# Altium footprint library Components - 03.03.24 - 22.05.PcbLib: 3 footprints
Each footprint in its own frame and in the unit in brackets; x right, y up, seen from the top. Pads: shape width x height; smd on the part's side, far side on the other; paste and mask are expansions set on the pad; w line width, h text height; cw(c..) or ccw(c..) is an arc to the next point about the centre after c.
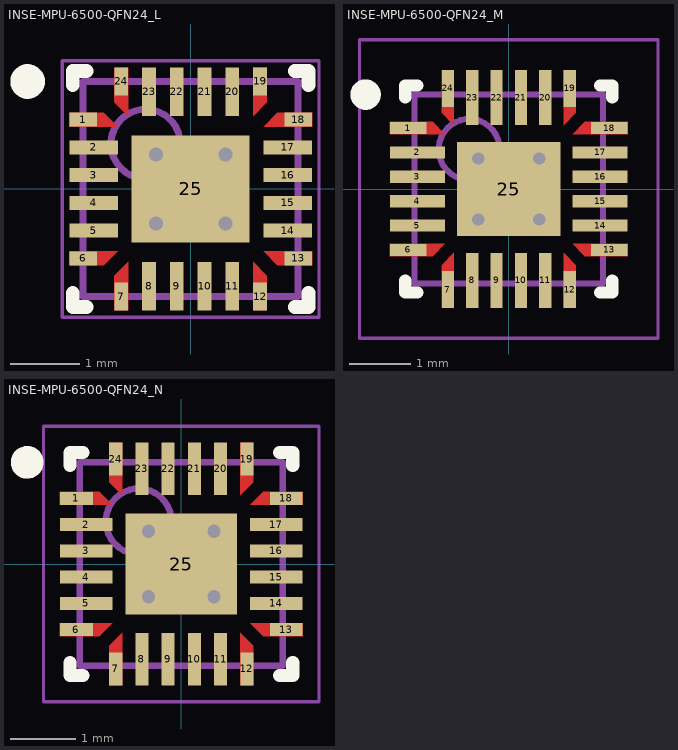
[diagram p0: the footprints below, top view; thin cyan lines are the x and y axes]

## INSE-MPU-6500-QFN24_L [mm] "QFN, 24-Leads, Body 3.1x3.1mm, Pitch 0.4mm, Thermal Pad 1.7X1.54mm, IPC High Density"
height 0.95
pads (25):
  rect 0.4x0.2 smd: 1(-1.55,1) 6(-1.55,-1) 13(1.55,-1) 18(1.55,1)
  rect 0.7x0.2 smd: 2(-1.4,0.6) 3(-1.4,0.2) 4(-1.4,-0.2) 5(-1.4,-0.6) 14(1.4,-0.6) 15(1.4,-0.2) 16(1.4,0.2) 17(1.4,0.6)
  rect 0.2x0.4 smd: 7(-1,-1.55) 12(1,-1.55) 19(1,1.55) 24(-1,1.55)
  rect 0.2x0.7 smd: 8(-0.6,-1.4) 9(-0.2,-1.4) 10(0.2,-1.4) 11(0.6,-1.4) 20(0.6,1.4) 21(0.2,1.4) 22(-0.2,1.4) 23(-0.6,1.4)
  rect 1.7x1.54 smd: 25(0,0)
via -0.5,0.5 diameter 0.5 hole 0.2
via -0.5,-0.5 diameter 0.5 hole 0.2
via 0.5,-0.5 diameter 0.5 hole 0.2
via 0.5,0.5 diameter 0.5 hole 0.2
Top Layer:
  region: 1.75,1.1 1.75,0.9 1.05,0.9 1.25,1.1
  region: 1.1,-1.75 0.9,-1.75 0.9,-1.05 1.1,-1.25
  region: -1.75,-1.1 -1.75,-0.9 -1.05,-0.9 -1.25,-1.1
  region: 1.1,1.75 0.9,1.75 0.9,1.05 1.1,1.25
  region: 1.75,-1.1 1.75,-0.9 1.05,-0.9 1.25,-1.1
  region: -1.1,-1.75 -0.9,-1.75 -0.9,-1.05 -1.1,-1.25
  region: -1.1,1.75 -0.9,1.75 -0.9,1.05 -1.1,1.25
  region: -1.75,1.1 -1.75,0.9 -1.05,0.9 -1.25,1.1
Top Overlay:
  circle w0.25: c-2.35,1.55 r0.125
  lines w0.2: -1.7,-1.5 -1.7,-1.7 -1.5,-1.7 ; -1.7,1.5 -1.7,1.7 -1.5,1.7 ; 1.5,-1.7 1.7,-1.7 1.7,-1.5 ; 1.5,1.7 1.7,1.7 1.7,1.5
Mechanical 13:
  circle w0.1: c-0.65,0.65 r0.5
  lines w0.1: -1.55,-1.55 -1.55,1.55 1.55,1.55 1.55,-1.55 -1.55,-1.55
Mechanical 15:
  lines w0.05: -1.85,-1.85 -1.85,1.85 1.85,1.85 1.85,-1.85 -1.85,-1.85
  lines w0.1: -0.5,0 0.5,0 ; 0,-0.5 0,0.5
3D body: height 0.95, standoff 0, extent -1.55,-1.55 1.55,1.55

## INSE-MPU-6500-QFN24_M [mm] "QFN, 24-Leads, Body 3.1x3.1mm, Pitch 0.4mm, Thermal Pad 1.7X1.54mm, IPC Low Density"
height 0.95
pads (25):
  rect 0.6x0.2 smd: 1(-1.65,1) 6(-1.65,-1) 13(1.65,-1) 18(1.65,1)
  rect 0.9x0.2 smd: 2(-1.5,0.6) 3(-1.5,0.2) 4(-1.5,-0.2) 5(-1.5,-0.6) 14(1.5,-0.6) 15(1.5,-0.2) 16(1.5,0.2) 17(1.5,0.6)
  rect 0.2x0.6 smd: 7(-1,-1.65) 12(1,-1.65) 19(1,1.65) 24(-1,1.65)
  rect 0.2x0.9 smd: 8(-0.6,-1.5) 9(-0.2,-1.5) 10(0.2,-1.5) 11(0.6,-1.5) 20(0.6,1.5) 21(0.2,1.5) 22(-0.2,1.5) 23(-0.6,1.5)
  rect 1.7x1.54 smd: 25(0,0)
via -0.5,0.5 diameter 0.5 hole 0.2
via -0.5,-0.5 diameter 0.5 hole 0.2
via 0.5,-0.5 diameter 0.5 hole 0.2
via 0.5,0.5 diameter 0.5 hole 0.2
Top Layer:
  region: -1.95,1.1 -1.95,0.9 -1.05,0.9 -1.25,1.1
  region: -1.1,-1.95 -0.9,-1.95 -0.9,-1.05 -1.1,-1.25
  region: 1.95,-1.1 1.95,-0.9 1.05,-0.9 1.25,-1.1
  region: 1.1,1.95 0.9,1.95 0.9,1.05 1.1,1.25
  region: -1.1,1.95 -0.9,1.95 -0.9,1.05 -1.1,1.25
  region: -1.95,-1.1 -1.95,-0.9 -1.05,-0.9 -1.25,-1.1
  region: 1.1,-1.95 0.9,-1.95 0.9,-1.05 1.1,-1.25
  region: 1.95,1.1 1.95,0.9 1.05,0.9 1.25,1.1
Top Overlay:
  circle w0.25: c-2.35,1.55 r0.125
  lines w0.2: -1.7,-1.5 -1.7,-1.7 -1.5,-1.7 ; -1.7,1.5 -1.7,1.7 -1.5,1.7 ; 1.5,-1.7 1.7,-1.7 1.7,-1.5 ; 1.5,1.7 1.7,1.7 1.7,1.5
Mechanical 13:
  circle w0.1: c-0.65,0.65 r0.5
  lines w0.1: -1.55,-1.55 1.55,-1.55 1.55,1.55 -1.55,1.55 -1.55,-1.55
Mechanical 15:
  lines w0.05: -2.45,-2.45 2.45,-2.45 2.45,2.45 -2.45,2.45 -2.45,-2.45
  lines w0.1: -0.5,0 0.5,0 ; 0,-0.5 0,0.5
3D body: height 0.95, standoff 0, extent -1.55,-1.55 1.55,1.55

## INSE-MPU-6500-QFN24_N [mm] "QFN, 24-Leads, Body 3.1x3.1mm, Pitch 0.4mm, Thermal Pad 1.7X1.54mm, IPC Medium Density"
height 0.95
pads (25):
  rect 0.5x0.2 smd: 1(-1.6,1) 6(-1.6,-1) 13(1.6,-1) 18(1.6,1)
  rect 0.8x0.2 smd: 2(-1.45,0.6) 3(-1.45,0.2) 4(-1.45,-0.2) 5(-1.45,-0.6) 14(1.45,-0.6) 15(1.45,-0.2) 16(1.45,0.2) 17(1.45,0.6)
  rect 0.2x0.5 smd: 7(-1,-1.6) 12(1,-1.6) 19(1,1.6) 24(-1,1.6)
  rect 0.2x0.8 smd: 8(-0.6,-1.45) 9(-0.2,-1.45) 10(0.2,-1.45) 11(0.6,-1.45) 20(0.6,1.45) 21(0.2,1.45) 22(-0.2,1.45) 23(-0.6,1.45)
  rect 1.7x1.54 smd: 25(0,0)
via -0.5,0.5 diameter 0.5 hole 0.2
via -0.5,-0.5 diameter 0.5 hole 0.2
via 0.5,-0.5 diameter 0.5 hole 0.2
via 0.5,0.5 diameter 0.5 hole 0.2
Top Layer:
  region: -1.85,1.1 -1.85,0.9 -1.05,0.9 -1.25,1.1
  region: -1.1,-1.85 -0.9,-1.85 -0.9,-1.05 -1.1,-1.25
  region: 1.85,-1.1 1.85,-0.9 1.05,-0.9 1.25,-1.1
  region: 1.1,1.85 0.9,1.85 0.9,1.05 1.1,1.25
  region: 1.85,1.1 1.85,0.9 1.05,0.9 1.25,1.1
  region: -1.1,1.85 -0.9,1.85 -0.9,1.05 -1.1,1.25
  region: -1.85,-1.1 -1.85,-0.9 -1.05,-0.9 -1.25,-1.1
  region: 1.1,-1.85 0.9,-1.85 0.9,-1.05 1.1,-1.25
Top Overlay:
  circle w0.25: c-2.35,1.55 r0.125
  lines w0.2: -1.7,-1.5 -1.7,-1.7 -1.5,-1.7 ; -1.7,1.5 -1.7,1.7 -1.5,1.7 ; 1.5,-1.7 1.7,-1.7 1.7,-1.5 ; 1.5,1.7 1.7,1.7 1.7,1.5
Mechanical 13:
  circle w0.1: c-0.65,0.65 r0.5
  lines w0.1: -1.55,-1.55 1.55,-1.55 1.55,1.55 -1.55,1.55 -1.55,-1.55
Mechanical 15:
  lines w0.05: -2.1,-2.1 2.1,-2.1 2.1,2.1 -2.1,2.1 -2.1,-2.1
  lines w0.1: -0.5,0 0.5,0 ; 0,-0.5 0,0.5
3D body: height 0.95, standoff 0, extent -1.55,-1.55 1.55,1.55